# EAGLE library part 428527520910 (library Wurth_Elektronik_Electromechanic_Switchs_rev15b)
WS-RCT-10x10 mm washable THT Rotary Switch,6 pins,10 positions
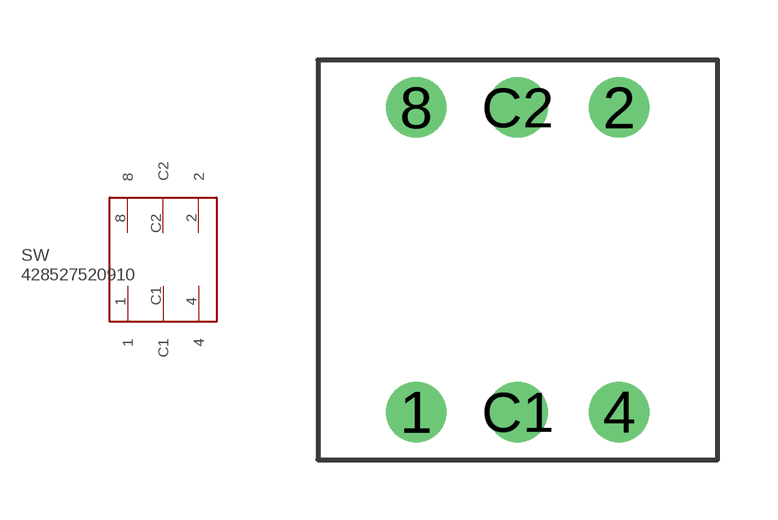
[diagram p3: symbol with the pads of 428527520910; footprint 428527520910]

Designator prefix SW

## 428527520910  [428527520910]
1  1
2  2
4  4
8  8
C1  C1
C2  C2

## Footprint 428527520910 (pad centres in mm)
WS-RCT-10x10 mm washable THT Rotary Switch,6 pins,10 positions
drill 1: 1 -2.54,-3.81; 2 2.54,3.81; 4 2.54,-3.81; 8 -2.54,3.81; C1 0,-3.81; C2 0,3.81